# EAGLE library part ATTINY828 (library atmel)
8-bit AVR tiny Microcontroller high-current drive capability on 8 I/O pins Status aktiv ATtiny828 General purpose working registers 32 SRAM 512 B Program flash memory 8 kB EEPROM 256 B 16-bit Timer/Counter 1 8-bit Timer/Counter 1 USART 1 SPI 1 TWI (I2C) 1 ADC channels 28 ADC resolution 10 bit AC 1 Watchdog 1 General purpose I/O 28 External interrupts 28 Operating voltage 1.7 ... 5.5 V Speed grade 0 ... 2 MHz @ 1.7 ... 1.8 V 0 ... 4 MHz @ 1.8 ... 5.5 V 0 ... 8 MHz @ 2.7 ... 5.5 V 0 ... 12 MHz @ 4.5 ... 5.5V Clock options calibrated internal 8 MHz oscillator internal 32 kHz ultra low power RC oscillator external clock input
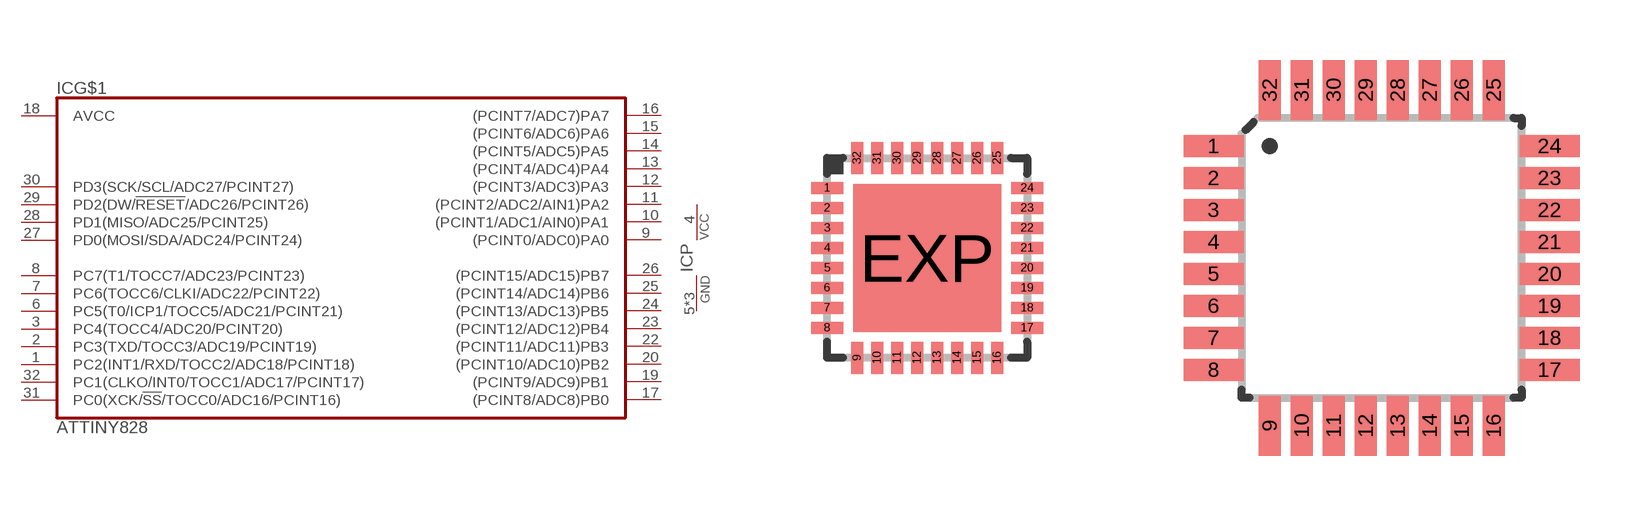
[diagram p92: symbol with the pads of QFN32_5X5_0.50; footprints QFN32_5X5_0.50, QFP32_7X7_0.80]

Designator prefix IC; gates G$1=TINY828 P=PWR

## ATTINY828-MU, ATTINY828R-MU  [QFN32_5X5_0.50]
1  G$1:PC2(INT1/RXD/TOCC2/ADC18/PCINT18)
2  G$1:PC3(TXD/TOCC3/ADC19/PCINT19)
3  G$1:PC4(TOCC4/ADC20/PCINT20)
4  P:VCC  pwr
5  P:GND  pwr
6  G$1:PC5(T0/ICP1/TOCC5/ADC21/PCINT21)
7  G$1:PC6(TOCC6/CLKI/ADC22/PCINT22)
8  G$1:PC7(T1/TOCC7/ADC23/PCINT23)
9  G$1:(PCINT0/ADC0)PA0
10  G$1:(PCINT1/ADC1/AIN0)PA1
11  G$1:(PCINT2/ADC2/AIN1)PA2
12  G$1:(PCINT3/ADC3)PA3
13  G$1:(PCINT4/ADC4)PA4
14  G$1:(PCINT5/ADC5)PA5
15  G$1:(PCINT6/ADC6)PA6
16  G$1:(PCINT7/ADC7)PA7
17  G$1:(PCINT8/ADC8)PB0
18  G$1:AVCC  pwr
19  G$1:(PCINT9/ADC9)PB1
20  G$1:(PCINT10/ADC10)PB2
21  P:GND  pwr
22  G$1:(PCINT11/ADC11)PB3
23  G$1:(PCINT12/ADC12)PB4
24  G$1:(PCINT13/ADC13)PB5
25  G$1:(PCINT14/ADC14)PB6
26  G$1:(PCINT15/ADC15)PB7
27  G$1:PD0(MOSI/SDA/ADC24/PCINT24)
28  G$1:PD1(MISO/ADC25/PCINT25)
29  G$1:PD2(DW/!RESET!/ADC26/PCINT26)
30  G$1:PD3(SCK/SCL/ADC27/PCINT27)
31  G$1:PC0(XCK/!SS!/TOCC0/ADC16/PCINT16)
32  G$1:PC1(CLKO/INT0/TOCC1/ADC17/PCINT17)
EXP  P:GND  pwr

## ATTINY828-AU, ATTINY828R-AU  [QFP32_7X7_0.80]
1  G$1:PC2(INT1/RXD/TOCC2/ADC18/PCINT18)
2  G$1:PC3(TXD/TOCC3/ADC19/PCINT19)
3  G$1:PC4(TOCC4/ADC20/PCINT20)
4  P:VCC  pwr
5  P:GND  pwr
6  G$1:PC5(T0/ICP1/TOCC5/ADC21/PCINT21)
7  G$1:PC6(TOCC6/CLKI/ADC22/PCINT22)
8  G$1:PC7(T1/TOCC7/ADC23/PCINT23)
9  G$1:(PCINT0/ADC0)PA0
10  G$1:(PCINT1/ADC1/AIN0)PA1
11  G$1:(PCINT2/ADC2/AIN1)PA2
12  G$1:(PCINT3/ADC3)PA3
13  G$1:(PCINT4/ADC4)PA4
14  G$1:(PCINT5/ADC5)PA5
15  G$1:(PCINT6/ADC6)PA6
16  G$1:(PCINT7/ADC7)PA7
17  G$1:(PCINT8/ADC8)PB0
18  G$1:AVCC  pwr
19  G$1:(PCINT9/ADC9)PB1
20  G$1:(PCINT10/ADC10)PB2
21  P:GND  pwr
22  G$1:(PCINT11/ADC11)PB3
23  G$1:(PCINT12/ADC12)PB4
24  G$1:(PCINT13/ADC13)PB5
25  G$1:(PCINT14/ADC14)PB6
26  G$1:(PCINT15/ADC15)PB7
27  G$1:PD0(MOSI/SDA/ADC24/PCINT24)
28  G$1:PD1(MISO/ADC25/PCINT25)
29  G$1:PD2(DW/!RESET!/ADC26/PCINT26)
30  G$1:PD3(SCK/SCL/ADC27/PCINT27)
31  G$1:PC0(XCK/!SS!/TOCC0/ADC16/PCINT16)
32  G$1:PC1(CLKO/INT0/TOCC1/ADC17/PCINT17)

## Footprint QFN32_5X5_0.50 (pad centres in mm)
32-Lead Plastic QFN, 5mm x 5mm body, 0.5mm lead pitch, exposed pad ATMEL Code: 32M1-A Micro Lead Frame package (MLF) NXP Code: SOT617
smd 0.8 x 0.3: 1 -2.5,1.75; 2 -2.5,1.25; 3 -2.5,0.75; 4 -2.5,0.25; 5 -2.5,-0.25; 6 -2.5,-0.75; 7 -2.5,-1.25; 8 -2.5,-1.75; 17 2.5,-1.75; 18 2.5,-1.25; 19 2.5,-0.75; 20 2.5,-0.25; 21 2.5,0.25; 22 2.5,0.75; 23 2.5,1.25; 24 2.5,1.75
smd 0.3 x 0.8: 9 -1.75,-2.5; 10 -1.25,-2.5; 11 -0.75,-2.5; 12 -0.25,-2.5; 13 0.25,-2.5; 14 0.75,-2.5; 15 1.25,-2.5; 16 1.75,-2.5; 25 1.75,2.5; 26 1.25,2.5; 27 0.75,2.5; 28 0.25,2.5; 29 -0.25,2.5; 30 -0.75,2.5; 31 -1.25,2.5; 32 -1.75,2.5
smd 3.7 x 3.7: EXP 0,0

## Footprint QFP32_7X7_0.80 (pad centres in mm)
Thin Plasic Quad Flat Package, 7mm x 7mm body, 0.80mm lead pitch JEDEC: MS-026 ABA ATMEL Code: 32A
smd 1.5 x 0.55: 1 -4.2,2.8; 2 -4.2,2; 3 -4.2,1.2; 4 -4.2,0.4; 5 -4.2,-0.4; 6 -4.2,-1.2; 7 -4.2,-2; 8 -4.2,-2.8; 17 4.2,-2.8; 18 4.2,-2; 19 4.2,-1.2; 20 4.2,-0.4; 21 4.2,0.4; 22 4.2,1.2; 23 4.2,2; 24 4.2,2.8
smd 0.55 x 1.5: 9 -2.8,-4.2; 10 -2,-4.2; 11 -1.2,-4.2; 12 -0.4,-4.2; 13 0.4,-4.2; 14 1.2,-4.2; 15 2,-4.2; 16 2.8,-4.2; 25 2.8,4.2; 26 2,4.2; 27 1.2,4.2; 28 0.4,4.2; 29 -0.4,4.2; 30 -1.2,4.2; 31 -2,4.2; 32 -2.8,4.2